# EAGLE library part T_MOLEX_45171 (library CHIP_HDMI)
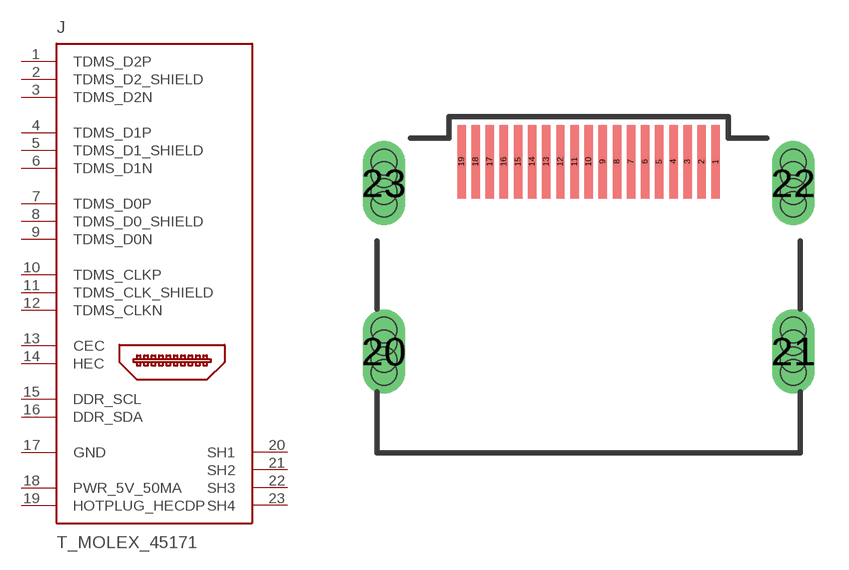
[diagram p2: symbol with the pads of T_MOLEX_45171; footprint T_MOLEX_45171]

Designator prefix J

## T_MOLEX_45171  [T_MOLEX_45171]
1  TDMS_D2P  pas
2  TDMS_D2_SHIELD  pas
3  TDMS_D2N  pas
4  TDMS_D1P  pas
5  TDMS_D1_SHIELD  pas
6  TDMS_D1N  pas
7  TDMS_D0P  pas
8  TDMS_D0_SHIELD  pas
9  TDMS_D0N  pas
10  TDMS_CLKP  pas
11  TDMS_CLK_SHIELD  pas
12  TDMS_CLKN  pas
13  CEC  pas
14  HEC  pas
15  DDR_SCL  pas
16  DDR_SDA  pas
17  GND  pas
18  PWR_5V_50MA  pas
19  HOTPLUG_HECDP  pas
20  SH1  pas
21  SH2  pas
22  SH3  pas
23  SH4  pas

## Footprint T_MOLEX_45171 (pad centres in mm)
Original name T_MOLEX_45171
smd 0.3 x 2.6: 1 4.5,10.31; 2 4,10.31; 3 3.5,10.31; 4 3,10.31; 5 2.5,10.31; 6 2,10.31; 7 1.5,10.31; 8 1,10.31; 9 0.5,10.31; 10 0,10.31; 11 -0.5,10.31; 12 -1,10.31; 13 -1.5,10.31; 14 -2,10.31; 15 -2.5,10.31; 16 -3,10.31; 17 -3.5,10.31; 18 -4,10.31; 19 -4.5,10.31
drill 0.9 pad 1.499 long: 20 -7.25,3.59; 21 7.25,3.59; 22 7.25,9.55; 23 -7.25,9.55
hole 0.9 at -7.25,10.3
hole 0.9 at -7.25,8.8
hole 0.9 at -7.25,9.85
hole 0.9 at -7.25,9.25
hole 0.9 at -7.25,4.35
hole 0.9 at -7.25,2.85
hole 0.9 at -7.25,3.9
hole 0.9 at -7.25,3.3
hole 0.9 at 7.25,10.3
hole 0.9 at 7.25,8.8
hole 0.9 at 7.25,9.85
hole 0.9 at 7.25,9.25
hole 0.9 at 7.25,4.35
hole 0.9 at 7.25,3.9
hole 0.9 at 7.25,2.85
hole 0.9 at 7.25,3.3